# Altium schematic symbol library ESP32-S3-WROOM-1-N4.SchLib: 1 symbol
Pins are listed as number, name and electrical type; pins without a type are passive.

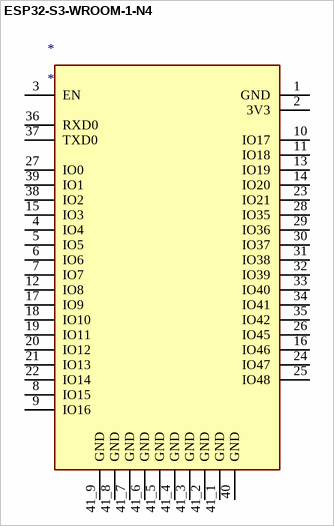
[diagram p0: symbol ESP32-S3-WROOM-1-N4]

## ESP32-S3-WROOM-1-N4
designator *
SMD Module, ESP32-S3, 4 mb Spi F; Manufacturer: Espressif Systems; Manufacturer Part Number: ESP32-S3-WROOM-1-N4; Supplier: Digikey; Supplier Part Number: 1965-ESP32-S3-WROOM-1-N4CT-ND; RoHS: No; Category: LDO; Stock: 2269; Pricing: 1=2.95 (USD); ComponentLink1URL: https://datasheet.octopart.com/ESP32-S3-WROOM-1-N4-Espressif-Systems-datasheet-165560563.pdf?src-supplier=TME; ComponentLink1Description: https://datasheet.octopart.com/ESP32-S3-WROOM-1-N4-Espressif-Systems-datasheet-165560563.pdf?src-supplier=TME
pins: 1 GND, 2 3V3, 3 EN, 4 IO4, 5 IO5, 6 IO6, 7 IO7, 8 IO15, 9 IO16, 10 IO17, 11 IO18, 12 IO8, 13 IO19, 14 IO20, 15 IO3, 16 IO46, 17 IO9, 18 IO10, 19 IO11, 20 IO12, 21 IO13, 22 IO14, 23 IO21, 24 IO47, 25 IO48, 26 IO45, 27 IO0, 28 IO35, 29 IO36, 30 IO37, 31 IO38, 32 IO39, 33 IO40, 34 IO41, 35 IO42, 36 RXD0, 37 TXD0, 38 IO2, 39 IO1, 40 GND, 41_1 GND, 41_2 GND, 41_3 GND, 41_4 GND, 41_5 GND, 41_6 GND, 41_7 GND, 41_8 GND, 41_9 GND